# EAGLE library part USB-C-4SH (library borkedlabs-connectors)
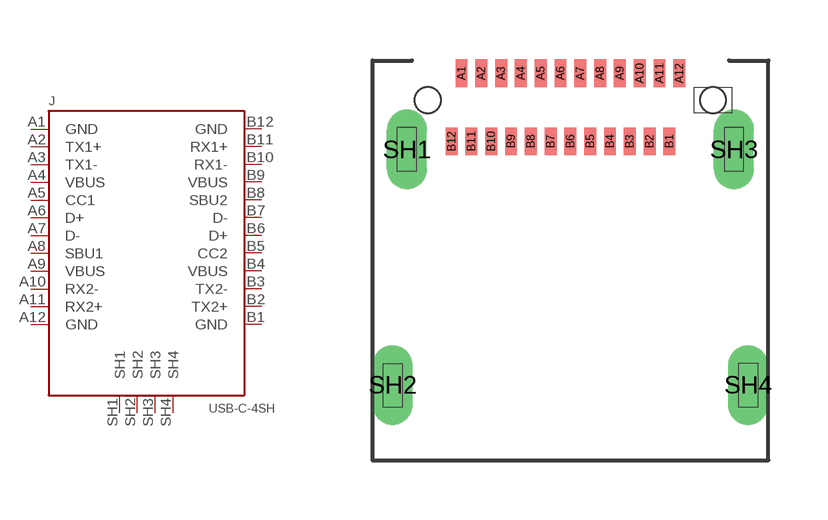
[diagram p5: symbol with the pads of 12401610E4; footprint 12401610E4]

Designator prefix J

## USB-C-4SH-12401610E4#2A  [12401610E4]
A1  GND
A2  TX1+
A3  TX1-
A4  VBUS
A5  CC1
A6  D+
A7  D-
A8  SBU1
A9  VBUS
A10  RX2-
A11  RX2+
A12  GND
B1  GND
B2  TX2+
B3  TX2-
B4  VBUS
B5  CC2
B6  D+
B7  D-
B8  SBU2
B9  VBUS
B10  RX1-
B11  RX1+
B12  GND
SH1  SH1
SH2  SH2
SH3  SH3
SH4  SH4

## Footprint 12401610E4 (pad centres in mm)
smd 0.3 x 0.7: A1 -2.75,0.68; A2 -2.25,0.68; A3 -1.75,0.68; A4 -1.25,0.68; A5 -0.75,0.68; A6 -0.25,0.68; A7 0.25,0.68; A8 0.75,0.68; A9 1.25,0.68; A10 1.75,0.68; A11 2.25,0.68; A12 2.75,0.68; B1 2.5,-1.04; B2 2,-1.04; B3 1.5,-1.04; B4 1,-1.04; B5 0.5,-1.04; B6 0,-1.04; B7 -0.5,-1.04; B8 -1,-1.04; B9 -1.5,-1.04; B10 -2,-1.04; B11 -2.5,-1.04; B12 -3,-1.04
drill 0.5 pad 0.8 long: SH1 -4.13,-1.25; SH2 -4.49,-7.2; SH3 4.13,-1.25; SH4 4.49,-7.2
hole 0.65 at -3.6,0
hole 0.65 at 3.6,0